# EAGLE library part GTL2000DGG (library GTL2000DGG)
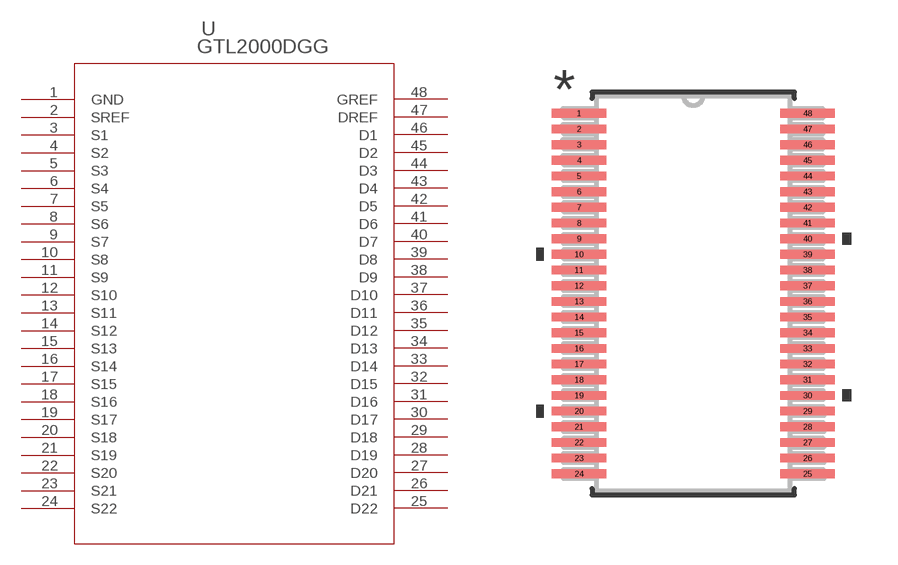
[diagram p0: symbol with the pads of SOT362-1; footprint SOT362-1]

Designator prefix U

## GTL2000DGG (COPYRIGHT: Copyright C 2015 Accelerated Designs. All rights reserved; MANUFACTURER_PART_NUMBER: GTL2000DGG; VENDOR: NXP)  [SOT362-1]
1  GND  pas
2  SREF  pas
3  S1  pas
4  S2  pas
5  S3  pas
6  S4  pas
7  S5  pas
8  S6  pas
9  S7  pas
10  S8  pas
11  S9  pas
12  S10  pas
13  S11  pas
14  S12  pas
15  S13  pas
16  S14  pas
17  S15  pas
18  S16  pas
19  S17  pas
20  S18  pas
21  S19  pas
22  S20  pas
23  S21  pas
24  S22  pas
25  D22  pas
26  D21  pas
27  D20  pas
28  D19  pas
29  D18  pas
30  D17  pas
31  D16  pas
32  D15  pas
33  D14  pas
34  D13  pas
35  D12  pas
36  D11  pas
37  D10  pas
38  D9  pas
39  D8  pas
40  D7  pas
41  D6  pas
42  D5  pas
43  D4  pas
44  D3  pas
45  D2  pas
46  D1  pas
47  DREF  pas
48  GREF  pas

## Footprint SOT362-1 (pad centres in mm)
smd 1.727 x 0.279: 1 -3.645,5.75; 2 -3.645,5.25; 3 -3.645,4.75; 4 -3.645,4.25; 5 -3.645,3.75; 6 -3.645,3.25; 7 -3.645,2.75; 8 -3.645,2.25; 9 -3.645,1.75; 10 -3.645,1.25; 11 -3.645,0.75; 12 -3.645,0.25; 13 -3.645,-0.25; 14 -3.645,-0.75; 15 -3.645,-1.25; 16 -3.645,-1.75; 17 -3.645,-2.25; 18 -3.645,-2.75; 19 -3.645,-3.25; 20 -3.645,-3.75; 21 -3.645,-4.25; 22 -3.645,-4.75; 23 -3.645,-5.25; 24 -3.645,-5.75; 25 3.645,-5.75; 26 3.645,-5.25; 27 3.645,-4.75; 28 3.645,-4.25; 29 3.645,-3.75; 30 3.645,-3.25; 31 3.645,-2.75; 32 3.645,-2.25; 33 3.645,-1.75; 34 3.645,-1.25; 35 3.645,-0.75; 36 3.645,-0.25; 37 3.645,0.25; 38 3.645,0.75; 39 3.645,1.25; 40 3.645,1.75; 41 3.645,2.25; 42 3.645,2.75; 43 3.645,3.25; 44 3.645,3.75; 45 3.645,4.25; 46 3.645,4.75; 47 3.645,5.25; 48 3.645,5.75